# EAGLE library part DW-04-20-F-D-020 (library con_samtec2)
http://www.samtec.com/documents/webfiles/deutsche_version/EWth_D.PDF
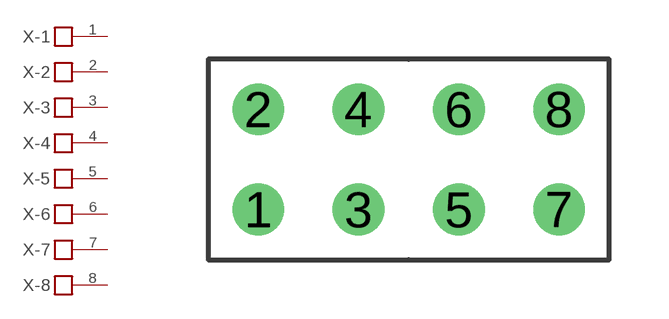
[diagram p1: symbol with the pads of DW_04X2; footprint DW_04X2]

Designator prefix X; gates -1=PIN -2=PIN -3=PIN -4=PIN -5=PIN -6=PIN -7=PIN -8=PIN

## DW-04-20-F-D-020  [DW_04X2]
1  -1:P$1
2  -2:P$1
3  -3:P$1
4  -4:P$1
5  -5:P$1
6  -6:P$1
7  -7:P$1
8  -8:P$1

## Footprint DW_04X2 (pad centres in mm)
drill 0.8: 1 -3.81,-1.27; 2 -3.81,1.27; 3 -1.27,-1.27; 4 -1.27,1.27; 5 1.27,-1.27; 6 1.27,1.27; 7 3.81,-1.27; 8 3.81,1.27